# Altium footprint library CH32V003.PcbLib: 4 footprints
Each footprint in its own frame and in the unit in brackets; x right, y up, seen from the top. Pads: shape width x height; smd on the part's side, far side on the other; paste and mask are expansions set on the pad; w line width, h text height; cw(c..) or ccw(c..) is an arc to the next point about the centre after c.
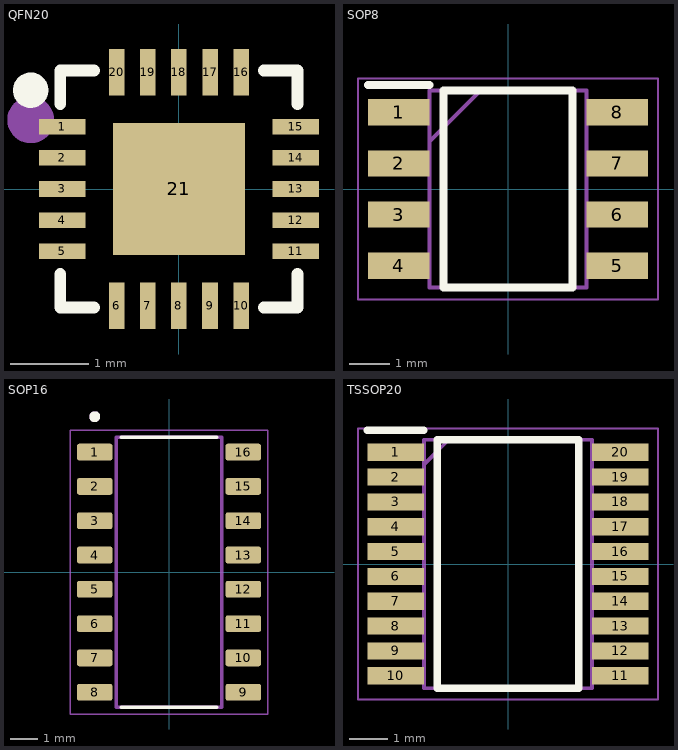
[diagram p0: the footprints below, top view; thin cyan lines are the x and y axes]

## QFN20 [mm]
pads (21):
  rect 0.6x0.2 smd paste-100 mask+0.051: 1(-1.5,0.8) 2(-1.5,0.4) 3(-1.5,0) 4(-1.5,-0.4) 5(-1.5,-0.8) 11(1.5,-0.8) 12(1.5,-0.4) 13(1.5,0) 14(1.5,0.4) 15(1.5,0.8)
  rect 0.2x0.6 smd paste-100 mask+0.051: 6(-0.8,-1.5) 7(-0.4,-1.5) 8(0,-1.5) 9(0.4,-1.5) 10(0.8,-1.5) 16(0.8,1.5) 17(0.4,1.5) 18(0,1.5) 19(-0.4,1.5) 20(-0.8,1.5)
  rect 1.7x1.7 smd paste-100 mask+0.051: 21(0,0)
Top Overlay:
  circle w0.254: c-1.905,1.27 r0.1
  lines w0.152: -1.524,-1.09 -1.524,-1.524 -1.09,-1.524 ; -1.524,1.143 -1.524,1.09 -1.524,1.524 -1.09,1.524 ; 1.09,-1.524 1.524,-1.524 1.524,-1.09 ; 1.09,1.524 1.524,1.524 1.524,1.09
Top Paste:
  region: 0.68,-0.68 -0.68,-0.68 -0.68,0.68 0.68,0.68
  region: -1.2,0.7 -1.2,0.9 -1.8,0.9 -1.8,0.7
  region: -1.2,0.3 -1.2,0.5 -1.8,0.5 -1.8,0.3
  region: -1.2,-0.1 -1.2,0.1 -1.8,0.1 -1.8,-0.1
  region: -1.2,-0.5 -1.2,-0.3 -1.8,-0.3 -1.8,-0.5
  region: -1.2,-0.9 -1.2,-0.7 -1.8,-0.7 -1.8,-0.9
  region: 1.8,0.7 1.8,0.9 1.2,0.9 1.2,0.7
  region: 1.8,0.3 1.8,0.5 1.2,0.5 1.2,0.3
  region: 1.8,-0.1 1.8,0.1 1.2,0.1 1.2,-0.1
  region: 1.8,-0.5 1.8,-0.3 1.2,-0.3 1.2,-0.5
  region: 1.8,-0.9 1.8,-0.7 1.2,-0.7 1.2,-0.9
  region: -0.7,1.8 -0.9,1.8 -0.9,1.2 -0.7,1.2
  region: -0.3,1.8 -0.5,1.8 -0.5,1.2 -0.3,1.2
  region: 0.1,1.8 -0.1,1.8 -0.1,1.2 0.1,1.2
  region: 0.5,1.8 0.3,1.8 0.3,1.2 0.5,1.2
  region: 0.9,1.8 0.7,1.8 0.7,1.2 0.9,1.2
  region: -0.7,-1.2 -0.9,-1.2 -0.9,-1.8 -0.7,-1.8
  region: -0.3,-1.2 -0.5,-1.2 -0.5,-1.8 -0.3,-1.8
  region: 0.1,-1.2 -0.1,-1.2 -0.1,-1.8 0.1,-1.8
  region: 0.5,-1.2 0.3,-1.2 0.3,-1.8 0.5,-1.8
  region: 0.9,-1.2 0.7,-1.2 0.7,-1.8 0.9,-1.8
Mechanical 15:
  circle w0.3: c-1.905,0.889 r0.15
3D body: height 1, standoff 0, extent -1.524,-1.473 1.422,1.499

## SOP8 [mm]
pads (8):
  rect 1.525x0.65 smd: 1(-2.712,1.905) 2(-2.712,0.635) 3(-2.712,-0.635) 4(-2.712,-1.905) 5(2.712,-1.905) 6(2.712,-0.635) 7(2.712,0.635) 8(2.712,1.905)
Top Overlay:
  lines w0.2: -3.475,2.58 -1.95,2.58 ; -1.6,-2.45 -1.6,2.45 1.6,2.45 1.6,-2.45 -1.6,-2.45
Mechanical 13:
  lines w0.1: -1.95,1.18 -0.68,2.45 ; -1.95,-2.45 -1.95,2.45 1.95,2.45 1.95,-2.45 -1.95,-2.45
Mechanical 15:
  lines w0.05: -3.725,-2.75 -3.725,2.75 3.725,2.75 3.725,-2.75 -3.725,-2.75
3D body "NE555DR.stp": height 1.75, standoff 0, extent -3,-2.45 3,2.45

## SOP16 [mm]
height 1.8
pads (16):
  rrect25% 1.31x0.62 smd: 1(-2.75,4.445) 2(-2.75,3.175) 3(-2.75,1.905) 4(-2.75,0.635) 5(-2.75,-0.635) 6(-2.75,-1.905) 7(-2.75,-3.175) 8(-2.75,-4.445) 9(2.75,-4.445) 10(2.75,-3.175) 11(2.75,-1.905) 12(2.75,-0.635) 13(2.75,0.635) 14(2.75,1.905) 15(2.75,3.175) 16(2.75,4.445)
Top Overlay:
  circle w0.2: c-2.75,5.755 r0.1
  lines w0.127: -1.775,-5 1.775,-5 -1.775,-5 ; -1.775,5 1.775,5 -1.775,5
Mechanical 13:
  circle w0.2: c-2.75,5.755 r0.1
  lines w0.127: -1.95,-5 -1.95,5 1.95,5 1.95,-5 -1.95,-5
Mechanical 15:
  lines w0.05: -3.655,-5.25 3.655,-5.25 3.655,5.25 -3.655,5.25 -3.655,-5.25
3D body "step_temp.STEP": height 1.8, standoff 0, extent -3,-5 3,5

## TSSOP20 [mm]
pads (20):
  rect 1.475x0.45 smd: 1(-2.938,2.925) 2(-2.938,2.275) 3(-2.938,1.625) 4(-2.938,0.975) 5(-2.938,0.325) 6(-2.938,-0.325) 7(-2.938,-0.975) 8(-2.938,-1.625) 9(-2.938,-2.275) 10(-2.938,-2.925) 11(2.938,-2.925) 12(2.938,-2.275) 13(2.938,-1.625) 14(2.938,-0.975) 15(2.938,-0.325) 16(2.938,0.325) 17(2.938,0.975) 18(2.938,1.625) 19(2.938,2.275) 20(2.938,2.925)
Top Overlay:
  lines w0.2: -3.675,3.5 -2.2,3.5 ; -1.85,-3.25 -1.85,3.25 1.85,3.25 1.85,-3.25 -1.85,-3.25
Mechanical 13:
  lines w0.1: -2.2,2.6 -1.55,3.25 ; -2.2,-3.25 -2.2,3.25 2.2,3.25 2.2,-3.25 -2.2,-3.25
Mechanical 15:
  lines w0.05: -3.925,-3.55 -3.925,3.55 3.925,3.55 3.925,-3.55 -3.925,-3.55
3D body "STM32G030F6P6.stp": height 1.2, standoff 0, extent -3.2,-3.25 3.2,3.25